# EAGLE library part DEC-DG2U (library relay_dec)
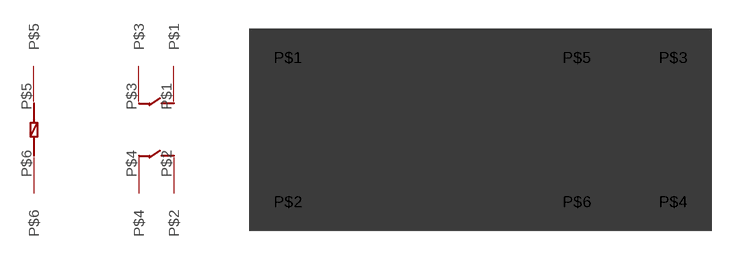
[diagram p0: symbol with the pads of DEC-DG2U; footprint DEC-DG2U]

Designator prefix -

## DEC-DG2U  [DEC-DG2U]
P$1  P$1
P$2  P$2
P$3  P$3
P$4  P$4
P$5  P$5
P$6  P$6

## Footprint DEC-DG2U (pad centres in mm)
drill 0.8 square: P$1 -10,3.75; P$2 -10,-3.75; P$3 10,3.75; P$4 10,-3.75; P$5 5,3.75; P$6 5,-3.75